# Altium footprint library ModdedTSPartFootprints.PcbLib: 30 footprints (part 1 of 2)
Each footprint in its own frame and in the unit in brackets; x right, y up, seen from the top. Pads: shape width x height; smd on the part's side, far side on the other; paste and mask are expansions set on the pad; w line width, h text height; cw(c..) or ccw(c..) is an arc to the next point about the centre after c.
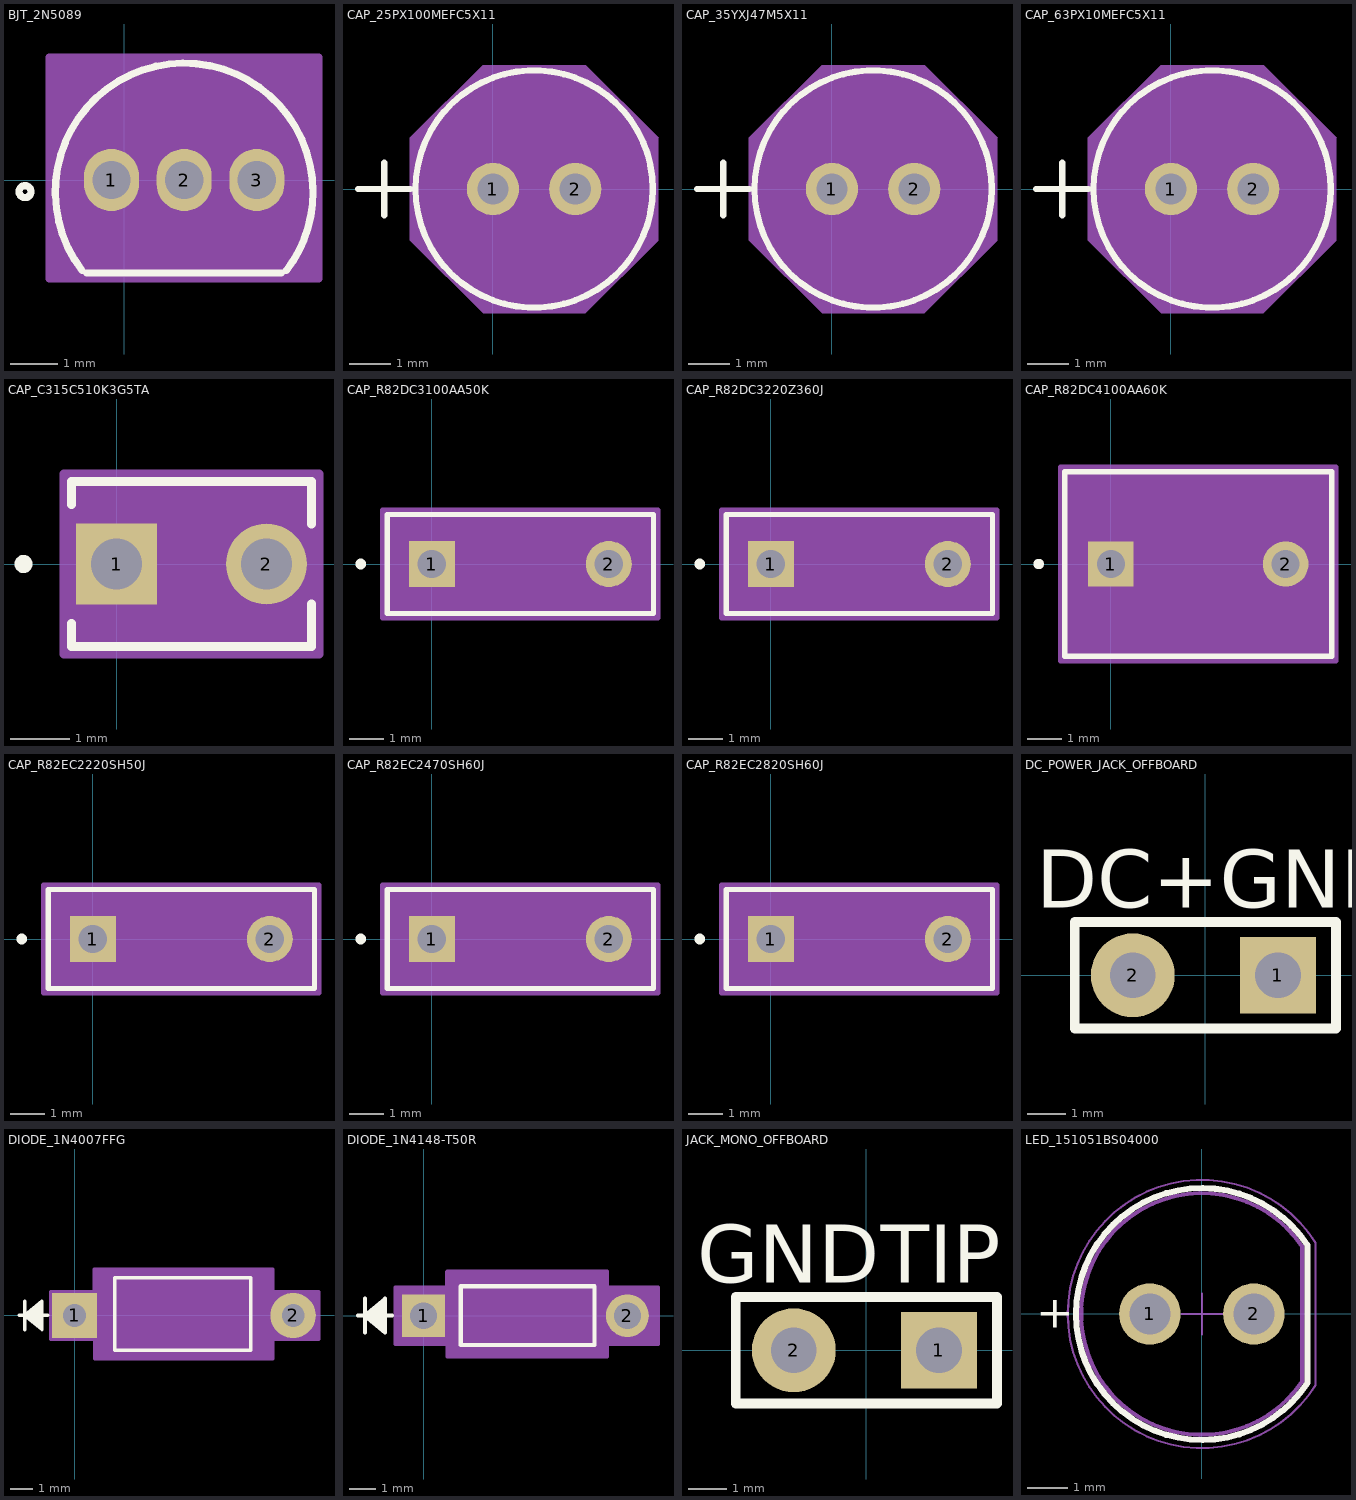
[diagram p0: the footprints below, top view; thin cyan lines are the x and y axes]

## BJT_2N5089 [mil] "Bipolar (BJT) Transistor NPN 25 V 50 mA 50MHz 625 mW Through Hole TO-92-3"
pads (3):
  oval 46x52 hole 32 paste-99999 mask+0: 1(-10.63,0) 2(50,0) 3(110.63,0)
Top Overlay:
  circle w6: c-82.79,-9.72 r5
  lines w6: -35.2,-75.55 cw(c50,-10) 157.5,-10 cw(c50,-10) 135.2,-75.55 ; -31.24,-77.5 131.24,-77.5
  text ".Designator" at -87.5,-35 h50
Mechanical 13:
  circle w1: c-42.5,-10 r5
  lines w1: -31.24,-72.5 cw(c50,-10) 131.24,-72.5 -31.24,-72.5
  lines w6: -10,-10 10,-10 ; 0,-20 0,0
  text ".Designator" at -87.5,-35 h50
Mechanical 15:
  region: 162.5,-82.5 -62.5,-82.5 -62.5,102.5 162.5,102.5
  lines w6: -62.5,-82.5 -62.5,102.5 162.5,102.5 162.5,-82.5 -62.5,-82.5

## CAP_25PX100MEFC5X11 [mil] "100 µF 25 V Aluminum Electrolytic Capacitors Radial, Can 1000 Hrs @ 105°C"
pads (2):
  round 50 / inner round 60 / far side round 50 hole 30 paste-99999 mask+0: 1(0,0) 2(78.74,0)
Top Overlay:
  circle w6: c39.37,0 r113.5
  lines w6: -129.13,0 -79.13,0 ; -104.13,-25 -104.13,25
  text ".Designator" at -98.13,-25 h50
Mechanical 13:
  circle w0: c39.37,0 r108.5
  lines w1: -129.13,0 -79.13,0 ; -104.13,-25 -104.13,25
Mechanical 15:
  region: -79.13,48.79 -9.42,118.5 88.16,118.5 157.87,48.79 157.87,-48.79 88.16,-118.5 -9.42,-118.5 -79.13,-48.79
  lines w1: -79.13,-48.79 -79.13,48.79 -9.42,118.5 88.16,118.5 157.87,48.79 157.87,-48.79 88.16,-118.5 -9.42,-118.5 -79.13,-48.79
3D body "CAP_PKPZ_5X11_LOW_RUB.step": height 492.6, standoff -160, extent -69.13,-108.38 149.03,108.38

## CAP_35YXJ47M5X11 [mil] "47 µF 35 V Aluminum Electrolytic Capacitors Radial, Can 5000 Hrs @ 105°C"
pads (2):
  round 50 hole 30 paste-99999 mask+0: 1(0,0) 2(78.74,0)
Top Overlay:
  circle w6: c39.37,0 r113.5
  lines w6: -129.13,0 -79.13,0 ; -104.13,-25 -104.13,25
  text ".Designator" at -98.13,-25 h50
Mechanical 13:
  circle w1: c39.37,0 r108.5
  lines w1: -129.13,0 -79.13,0 ; -104.13,-25 -104.13,25
  text ".Designator" at -98.13,-25 h50
Mechanical 15:
  region: -79.13,48.79 -9.42,118.5 88.16,118.5 157.87,48.79 157.87,-48.79 88.16,-118.5 -9.42,-118.5 -79.13,-48.79
  lines w1: -79.13,-48.79 -79.13,48.79 -9.42,118.5 88.16,118.5 157.87,48.79 157.87,-48.79 88.16,-118.5 -9.42,-118.5 -79.13,-48.79
3D body "CAP_YX_5X11_RUB.step": height 492.6, standoff -160, extent -69.13,-108.38 149.03,108.38

## CAP_63PX10MEFC5X11 [mil] "10 µF 63 V Aluminum Electrolytic Capacitors Radial, Can 1000 Hrs @ 105°C"
pads (2):
  round 50 hole 30 paste-99999 mask+0: 1(0,0) 2(78.74,0)
Top Overlay:
  circle w6: c39.37,0 r113.5
  lines w6: -129.13,0 -79.13,0 ; -104.13,-25 -104.13,25
  text ".Designator" at -98.13,-25 h50
Mechanical 13:
  circle w1: c39.37,0 r108.5
  lines w1: -129.13,0 -79.13,0 ; -104.13,-25 -104.13,25
  text ".Designator" at -98.13,-25 h50
Mechanical 15:
  region: -79.13,48.79 -9.42,118.5 88.16,118.5 157.87,48.79 157.87,-48.79 88.16,-118.5 -9.42,-118.5 -79.13,-48.79
  lines w1: -79.13,-48.79 -9.42,-118.5 88.16,-118.5 157.87,-48.79 157.87,48.79 88.16,118.5 -9.42,118.5 -79.13,48.79 -79.13,-48.79
3D body "CAP_PKPZ_5X11_LOW_RUB.step": height 492.6, standoff -160, extent -69.13,-108.38 149.03,108.38

## CAP_C315C510K3G5TA [mil] "51 pF ±10% 25V Ceramic Capacitor C0G, NP0 Radial"
pads (2):
  rect 54x54 hole 34 paste-99999 mask+0: 1(0,0)
  round 54 hole 34 paste-99999 mask+0: 2(100,0)
Top Overlay:
  circle w6: c-62,0 r3
  lines w6: -30,-39.75 -30,-55 130,-55 130,-26.61 ; -30,39.75 -30,55 130,55 130,26.61
  text ".Designator" at -87.5,-25 h50
Mechanical 13:
  circle w1: c-5,0 r3
  lines w1: -25,-50 -25,50 125,50 125,-50 -25,-50
  text ".Designator" at -87.5,-25 h50
Mechanical 15:
  region: 135,-60 -35,-60 -35,60 135,60
  lines w6: -35,-60 135,-60 135,60 -35,60 -35,-60
3D body "CAP_C315C_MOLDED_KEM.step": height 180, standoff -172.01, extent -37.01,-50 112.99,50

## CAP_R82DC3100AA50K [mil] "0.1 µF Film Capacitor 40V 63V Polyester, Polyethylene Terephthalate (PET), Metallized - Stacked Radial"
pads (2):
  rect 52x52 hole 32 paste-99999 mask+0: 1(0,0)
  round 52 hole 32 paste-99999 mask+0: 2(200,0)
Top Overlay:
  circle w6: c-80.5,0 r3
  lines w6: -50.5,-56 250.5,-56 250.5,56 -50.5,56 -50.5,-56
  text ".Designator" at -37.5,-25 h50
Mechanical 13:
  circle w1: c-25.5,0 r3
  lines w1: -45.5,-51 245.5,-51 245.5,51 -45.5,51 -45.5,-51
  text ".Designator" at -37.5,-25 h50
Mechanical 15:
  region: 255.5,-61 -55.5,-61 -55.5,61 255.5,61
  lines w6: -55.5,-61 -55.5,61 255.5,61 255.5,-61 -55.5,-61
3D body "CAP_R82E-7P4X2P6-5P0_KEM.step": height 260, standoff -165.98, extent -45.51,-50.98 245.51,50.98

## CAP_R82DC3220Z360J [mil] "0.22 µF Film Capacitor 40V 63V Polyester, Polyethylene Terephthalate (PET), Metallized - Stacked Radial"
pads (2):
  rect 52x52 hole 32 paste-99999 mask+0: 1(0,0)
  round 52 hole 32 paste-99999 mask+0: 2(200,0)
Top Overlay:
  circle w6: c-80.5,0 r3
  lines w6: -50.5,-56 -50.5,56 250.5,56 250.5,-56 -50.5,-56
  text ".Designator" at -37.5,-25 h50
Mechanical 13:
  circle w1: c-25.5,0 r3
  lines w1: -45.5,-51 -45.5,51 245.5,51 245.5,-51 -45.5,-51
  text ".Designator" at -37.5,-25 h50
Mechanical 15:
  region: 255.5,-61 -55.5,-61 -55.5,61 255.5,61
  lines w6: -55.5,-61 255.5,-61 255.5,61 -55.5,61 -55.5,-61
3D body "CAP_R82D-7P4X2P6-5P0_KEM.step": height 260, standoff -165.98, extent -45.51,-50.98 245.51,50.98

## CAP_R82DC4100AA60K [mil] "1 µF Film Capacitor 40V 63V Polyester, Polyethylene Terephthalate (PET), Metallized - Stacked Radial"
pads (2):
  rect 52x52 hole 32 paste-99999 mask+0: 1(0,0)
  round 52 hole 32 paste-99999 mask+0: 2(200,0)
Top Overlay:
  circle w6: c-82.5,0 r3
  lines w6: -52.5,-105.5 -52.5,105.5 252.5,105.5 252.5,-105.5 -52.5,-105.5
  text ".Designator" at -37.5,-25 h50
Mechanical 13:
  circle w1: c-27.5,0 r3
  lines w1: -47.5,-100.5 -47.5,100.5 247.5,100.5 247.5,-100.5 -47.5,-100.5
  text ".Designator" at -37.5,-25 h50
Mechanical 15:
  region: 257.5,-110.5 -57.5,-110.5 -57.5,110.5 257.5,110.5
  lines w6: -57.5,-110.5 257.5,-110.5 257.5,110.5 -57.5,110.5 -57.5,-110.5
3D body "CAP_R82D-7P5X5P1-5P0_KEM.step": height 397.99, standoff -165.98, extent -47.48,-100.51 247.48,100.51

## CAP_R82EC2220SH50J [mil] "0.022 µF Film Capacitor 63V 100V Polyester, Polyethylene Terephthalate (PET), Metallized - Stacked Radial"
pads (2):
  rect 52x52 hole 32 paste-99999 mask+0: 1(0,0)
  round 52 hole 32 paste-99999 mask+0: 2(200,0)
Top Overlay:
  circle w6: c-80.5,0 r3
  lines w6: -50.5,-56 -50.5,56 250.5,56 250.5,-56 -50.5,-56
  text ".Designator" at -37.5,-25 h50
Mechanical 13:
  circle w1: c-25.5,0 r3
  lines w1: -45.5,-51 -45.5,51 245.5,51 245.5,-51 -45.5,-51
  text ".Designator" at -37.5,-25 h50
Mechanical 15:
  region: 255.5,-61 -55.5,-61 -55.5,61 255.5,61
  lines w6: -55.5,-61 255.5,-61 255.5,61 -55.5,61 -55.5,-61
3D body "CAP_R82E-7P4X2P6-5P0_KEM.step": height 260, standoff -165.98, extent -45.51,-50.98 245.51,50.98

## CAP_R82EC2470SH60J [mil] "0.047 µF Film Capacitor 63V 100V Polyester, Polyethylene Terephthalate (PET), Metallized - Stacked Radial"
pads (2):
  rect 52x52 hole 32 paste-99999 mask+0: 1(0,0)
  round 52 hole 32 paste-99999 mask+0: 2(200,0)
Top Overlay:
  circle w6: c-80.5,0 r3
  lines w6: -50.5,-56 250.5,-56 250.5,56 -50.5,56 -50.5,-56
  text ".Designator" at -37.5,-25 h50
Mechanical 13:
  circle w1: c-25.5,0 r3
  lines w1: -45.5,-51 245.5,-51 245.5,51 -45.5,51 -45.5,-51
  text ".Designator" at -37.5,-25 h50
Mechanical 15:
  region: 255.5,-61 -55.5,-61 -55.5,61 255.5,61
  lines w6: -55.5,-61 -55.5,61 255.5,61 255.5,-61 -55.5,-61
3D body "CAP_R82E-7P4X2P6-5P0_KEM.step": height 260, standoff -165.98, extent -45.51,-50.98 245.51,50.98

## CAP_R82EC2820SH60J [mil] "0.082 µF Film Capacitor 63V 100V Polyester, Polyethylene Terephthalate (PET), Metallized - Stacked Radial"
pads (2):
  rect 52x52 hole 32 paste-99999 mask+0: 1(0,0)
  round 52 hole 32 paste-99999 mask+0: 2(200,0)
Top Overlay:
  circle w6: c-80.5,0 r3
  lines w6: -50.5,-56 250.5,-56 250.5,56 -50.5,56 -50.5,-56
  text ".Designator" at -37.5,-25 h50
Mechanical 13:
  circle w1: c-25.5,0 r3
  lines w1: -45.5,-51 245.5,-51 245.5,51 -45.5,51 -45.5,-51
  text ".Designator" at -37.5,-25 h50
Mechanical 15:
  region: 255.5,-61 -55.5,-61 -55.5,61 255.5,61
  lines w6: -55.5,-61 -55.5,61 255.5,61 255.5,-61 -55.5,-61
3D body "CAP_R82E-7P4X2P6-5P0_KEM.step": height 260, standoff -165.98, extent -45.51,-50.98 245.51,50.98

## DC_POWER_JACK_OFFBOARD [mm] "Through holes for wires to Power Barrel Connector Jack 2.10mm ID (0.083\"), 5.50mm OD (0.217\") Chassis Mount"
pads (2):
  rect 2x2 hole 1.2: 1(1.905,0)
  round 2.2 hole 1.2: 2(-1.905,0)
Top Overlay:
  lines w0.254: -3.429,-1.397 3.429,-1.397 3.429,1.397 -3.429,1.397 -3.429,-1.397
  text ".Designator" at -1.843,-1.778 h1.27
  text "GND" at 0.381,1.778 h1.52
  text "DC+" at -4.445,1.778 h1.52

## DIODE_1N4007FFG [mm] "Diode 1000 V 1A Through Hole Axial"
pads (2):
  rect 2x2 / inner oval 1.925x1.524 / far side rect 2x2 hole 1 paste-2539.97 mask+0: 1(0,0)
  round 2 / inner round 1.524 / far side round 2 hole 1 paste-2539.97 mask+0: 2(9.652,0)
Top Overlay:
  lines w0.152: -2.451,0 -1.181,0 ; -2.197,-0.635 -2.197,0.635 ; -1.435,-0.508 -2.197,0 ; -1.435,-0.381 -2.197,0 ; -1.435,-0.254 -2.197,0 ; -1.435,-0.127 -2.197,0 ; -1.435,0.127 -2.197,0 ; -1.435,0.254 -2.197,0 ; -1.435,0.381 -2.197,0 ; -1.435,0.508 -2.197,0 ; 1.785,1.657 1.785,-1.543 7.779,-1.543 7.779,1.673 1.789,1.673 ; -2.197,0 -1.435,0.635 -1.435,-0.635 -2.197,0
  text ".Designator" at 1.586,-0.635 h1.27
Mechanical 13:
  lines w0.025: -2.451,0 -1.181,0 ; -2.197,-0.635 -2.197,0.635 ; -1.435,-0.508 -2.197,0 ; -1.435,-0.381 -2.197,0 ; -1.435,-0.254 -2.197,0 ; -1.435,-0.127 -2.197,0 ; -1.435,0.127 -2.197,0 ; -1.435,0.254 -2.197,0 ; -1.435,0.381 -2.197,0 ; -1.435,0.508 -2.197,0 ; -2.197,0 -1.435,0.635 -1.435,-0.635 -2.197,0
Mechanical 15:
  region: 0.889,-1.054 -1.054,-1.054 -1.054,1.054 0.889,1.054 0.889,2.032 8.763,2.032 8.763,1.054 10.795,1.054 10.795,-1.054 8.763,-1.054 8.763,-1.905 0.889,-1.905
  lines w0.152: 0.868,1.16 0.868,2.032 8.763,2.032 8.763,1.143 ; 0.889,1.054 -1.054,1.054 -1.054,-1.054 0.889,-1.054 0.889,-1.905 8.763,-1.905 8.763,-1.054 ; 8.852,-1.054 10.795,-1.054 10.795,1.054 8.852,1.054
3D body "1N4007FFG.step": height 2.69, standoff -21.19, extent -0.729,-1.339 10.416,1.361

## DIODE_1N4148-T50R [mil] "Diode 100 V 200mA Through Hole DO-35"
pads (2):
  rect 63x63 / inner round 60 / far side rect 63x63 hole 39.37 paste-99999 mask+0: 1(0,0)
  round 63 / inner round 60 / far side round 63 hole 39.37 paste-99999 mask+0: 2(300,0)
Top Overlay:
  lines w6: -96.5,0 -46.5,0 ; -86.5,-25 -86.5,25 ; -56.5,-20 -86.5,0 ; -56.5,-15 -86.5,0 ; -56.5,-10 -86.5,0 ; -56.5,-5 -86.5,0 ; -56.5,5 -86.5,0 ; -56.5,10 -86.5,0 ; -56.5,15 -86.5,0 ; -56.5,20 -86.5,0 ; 54.69,43.31 54.69,-43.31 251.54,-43.31 ; 54.84,43.31 251.69,43.31 251.69,-43.31 ; -86.5,0 -56.5,25 -56.5,-25 -86.5,0
  text ".Designator" at 62.44,-25 h50
Mechanical 13:
  lines w1: -96.5,0 -46.5,0 ; -86.5,-25 -86.5,25 ; -56.5,-20 -86.5,0 ; -56.5,-15 -86.5,0 ; -56.5,-10 -86.5,0 ; -56.5,-5 -86.5,0 ; -56.5,5 -86.5,0 ; -56.5,10 -86.5,0 ; -56.5,15 -86.5,0 ; -56.5,20 -86.5,0 ; -86.5,0 -56.5,25 -56.5,-25 -86.5,0
Mechanical 15:
  region: 35,-41.5 -41.5,-41.5 -41.5,41.5 35,41.5 35,65 270,65 270,41.5 345,41.5 345,-41.5 270,-41.5 270,-60 35,-60
  lines w6: 34.18,45.66 34.18,64.16 ; 35,41.5 -41.5,41.5 -41.5,-41.5 35,-41.5 35,-60 270,-60 270,-41.5 ; 35,65 270,65 ; 268.5,-41.5 345,-41.5 345,41.5 268.5,41.5 ; 270,45 270,63.5
3D body "1N4148-T50R.step": height 74.92, standoff -902.46, extent -6.96,-36.86 308.25,38.33

## JACK_MONO_OFFBOARD [mm] "Through holes for wires to 6.35mm (0.250\", 1/4\") - Headphone Phone Jack Mono Connector Solder Eyelet(s)"
pads (2):
  rect 2x2 hole 1.2: 1(1.905,0)
  round 2.2 hole 1.2: 2(-1.905,0)
Top Overlay:
  lines w0.254: -3.429,-1.397 -3.429,1.397 3.429,1.397 3.429,-1.397 -3.429,-1.397
  text ".Designator" at -1.843,-1.651 h1.27
  text "TIP" at 0.381,1.778 h1.52
  text "GND" at -4.445,1.778 h1.52

## LED_151051BS04000 [mm] "Blue 470nm LED Indication - Discrete 3.2V Radial"
height 8.7
pads (2):
  round 1.5 hole 1: 1(-1.27,0) 2(1.27,0)
Top Overlay:
  lines w0.15: 2.575,-1.681 cw(c0,0) 2.575,1.681 2.575,-1.681
  text "+" at -4.05,-0.33 h0.8
Top Courtyard:
  lines w0.05: -0.5,0 0.5,0 ; 0,-0.5 0,0.5 ; 2.775,-1.74 cw(c0,0) 2.775,1.74 2.775,-1.74
Top Designator:
  text ".Designator" at -7.498,-0.5 h1.5
Top Component Outline:
  lines w0.1: 2.449,-1.644 cw(c0,0) 2.449,1.645 ; 2.45,-1.645 2.45,1.645
3D body "STEP-WL-TMRC-5mm-wos-rev1.stp": height 9.2, standoff -25.9, extent -2.95,-2.949 2.45,2.95